# Altium footprint library CUI_SJ2-35983D-SMT-TR.PcbLib: 1 footprints
Each footprint in its own frame and in the unit in brackets; x right, y up, seen from the top. Pads: shape width x height; smd on the part's side, far side on the other; paste and mask are expansions set on the pad; w line width, h text height; cw(c..) or ccw(c..) is an arc to the next point about the centre after c.
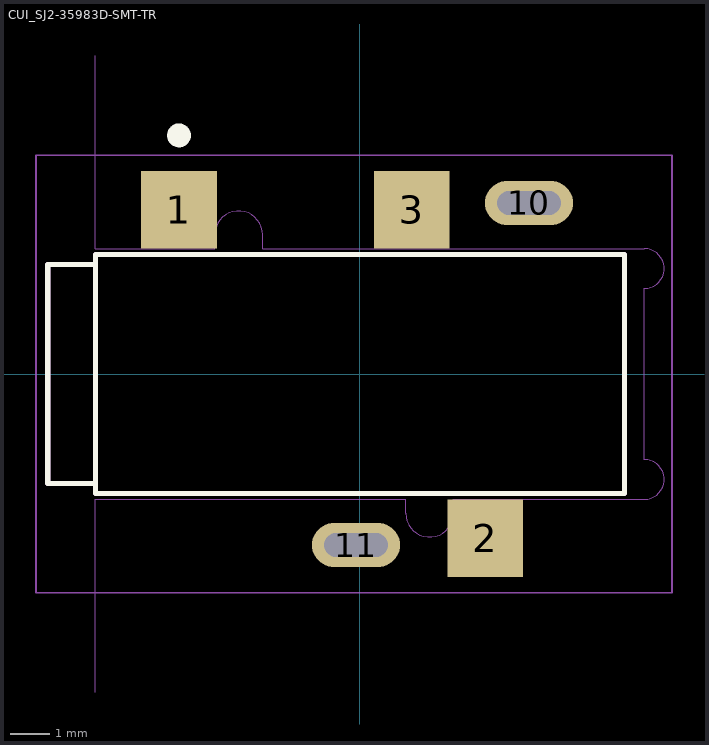
[diagram p0: the footprint, top view; thin cyan lines are the x and y axes]

## CUI_SJ2-35983D-SMT-TR [mm]
pads (5):
  rect 1.9x1.95 smd: 1(-4.55,4.125) 2(3.15,-4.125) 3(1.3,4.125)
  oval 2.216x1.108 hole 0.6 slot 1.6 at 0 deg: 10(4.25,4.3) 11(-0.1,-4.3)
Top Overlay:
  circle w0.3: c-4.55,6 r0.15
  lines w0.127: -6.65,2.75 -7.85,2.75 -7.85,-2.75 -6.65,-2.75 ; -6.65,-2.75 -6.65,-3 6.65,-3 6.65,3 -6.65,3 -6.65,-2.75
Mechanical 1:
  lines w0: -6.65,-8 -6.65,-3.15 1.15,-3.15 1.15,-3.5 ccw(c1.75,-3.5) 2.35,-3.5 2.35,-3.15 7.15,-3.15 ccw(c7.15,-2.65) 7.15,-2.15 7.15,2.15 ccw(c7.15,2.65) 7.15,3.15 -2.45,3.15 -2.45,3.5 ccw(c-3.05,3.5) -3.65,3.5 -3.65,3.15 -6.65,3.15 -6.65,8
Mechanical 13:
  lines w0.127: -6.65,-2.75 -6.65,2.75 ; -6.65,-2.75 -6.65,-3 6.65,-3 6.65,3 -6.65,3 -6.65,2.75 ; -6.65,-2.75 -7.85,-2.75 -7.85,2.75 -6.65,2.75
  text "PCB edge" at -19.376,9.362 h1.27
Mechanical 15:
  lines w0.05: -8.15,-5.5 7.85,-5.5 7.85,5.5 -8.15,5.5 -8.15,-5.5